# Altium footprint library PCB - CONNECTOR - BARREL - CUI PJ-102.PcbLib: 1 footprints
Each footprint in its own frame and in the unit in brackets; x right, y up, seen from the top. Pads: shape width x height; smd on the part's side, far side on the other; paste and mask are expansions set on the pad; w line width, h text height; cw(c..) or ccw(c..) is an arc to the next point about the centre after c.
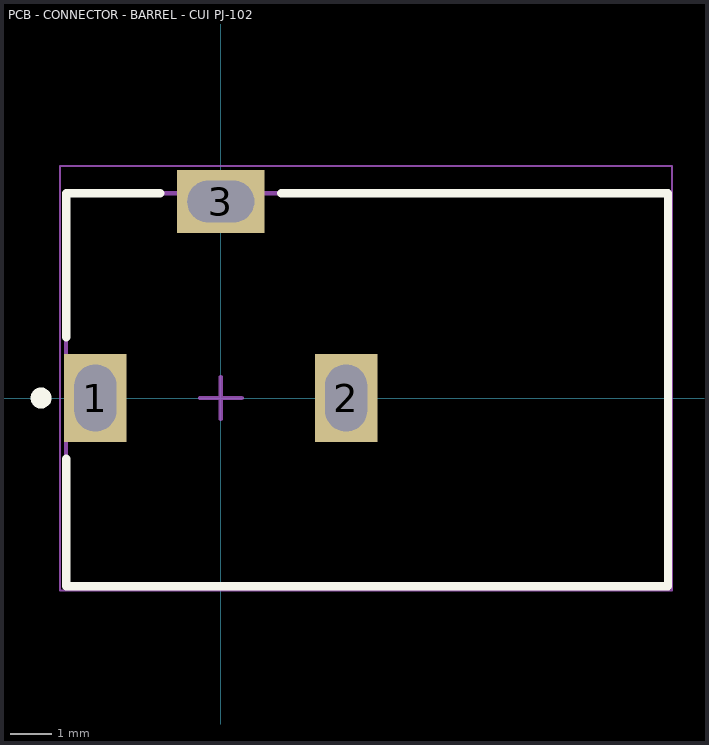
[diagram p0: the footprint, top view; thin cyan lines are the x and y axes]

## PCB - CONNECTOR - BARREL - CUI PJ-102 [mm] "THD, 3-Leads, Body 14.4x9mm, Height 11mm"
height 11
pads (3):
  rect 1.5x2.1 hole 1 slot 1.6 at 90 deg: 1(-3,0) 2(3,0)
  rect 2.1x1.5 hole 1 slot 1.6 at 0 deg: 3(0,4.7)
Top Overlay:
  circle w0.25: c-4.3,0 r0.125
  lines w0.2: -3.7,-1.45 -3.7,-4.5 10.7,-4.5 10.7,4.9 1.45,4.9 ; -3.7,1.45 -3.7,4.9 -1.45,4.9
Mechanical 13:
  lines w0.1: -3.7,-4.5 -3.7,4.9 10.7,4.9 10.7,-4.5 -3.7,-4.5
Mechanical 15:
  lines w0.05: -3.85,-4.6 -3.85,5.55 10.8,5.55 10.8,-4.6 -3.85,-4.6
  lines w0.1: -0.5,0 0.5,0 ; 0,-0.5 0,0.5
3D body "pj-102b.stp": height 11, standoff -3.5, extent -3.7,-4.5 10.7,4.9